# Altium integrated library NSC DAC.IntLib: 44 symbols (part 1 of 2)
Pins are listed as number, name and electrical type; pins without a type are passive.

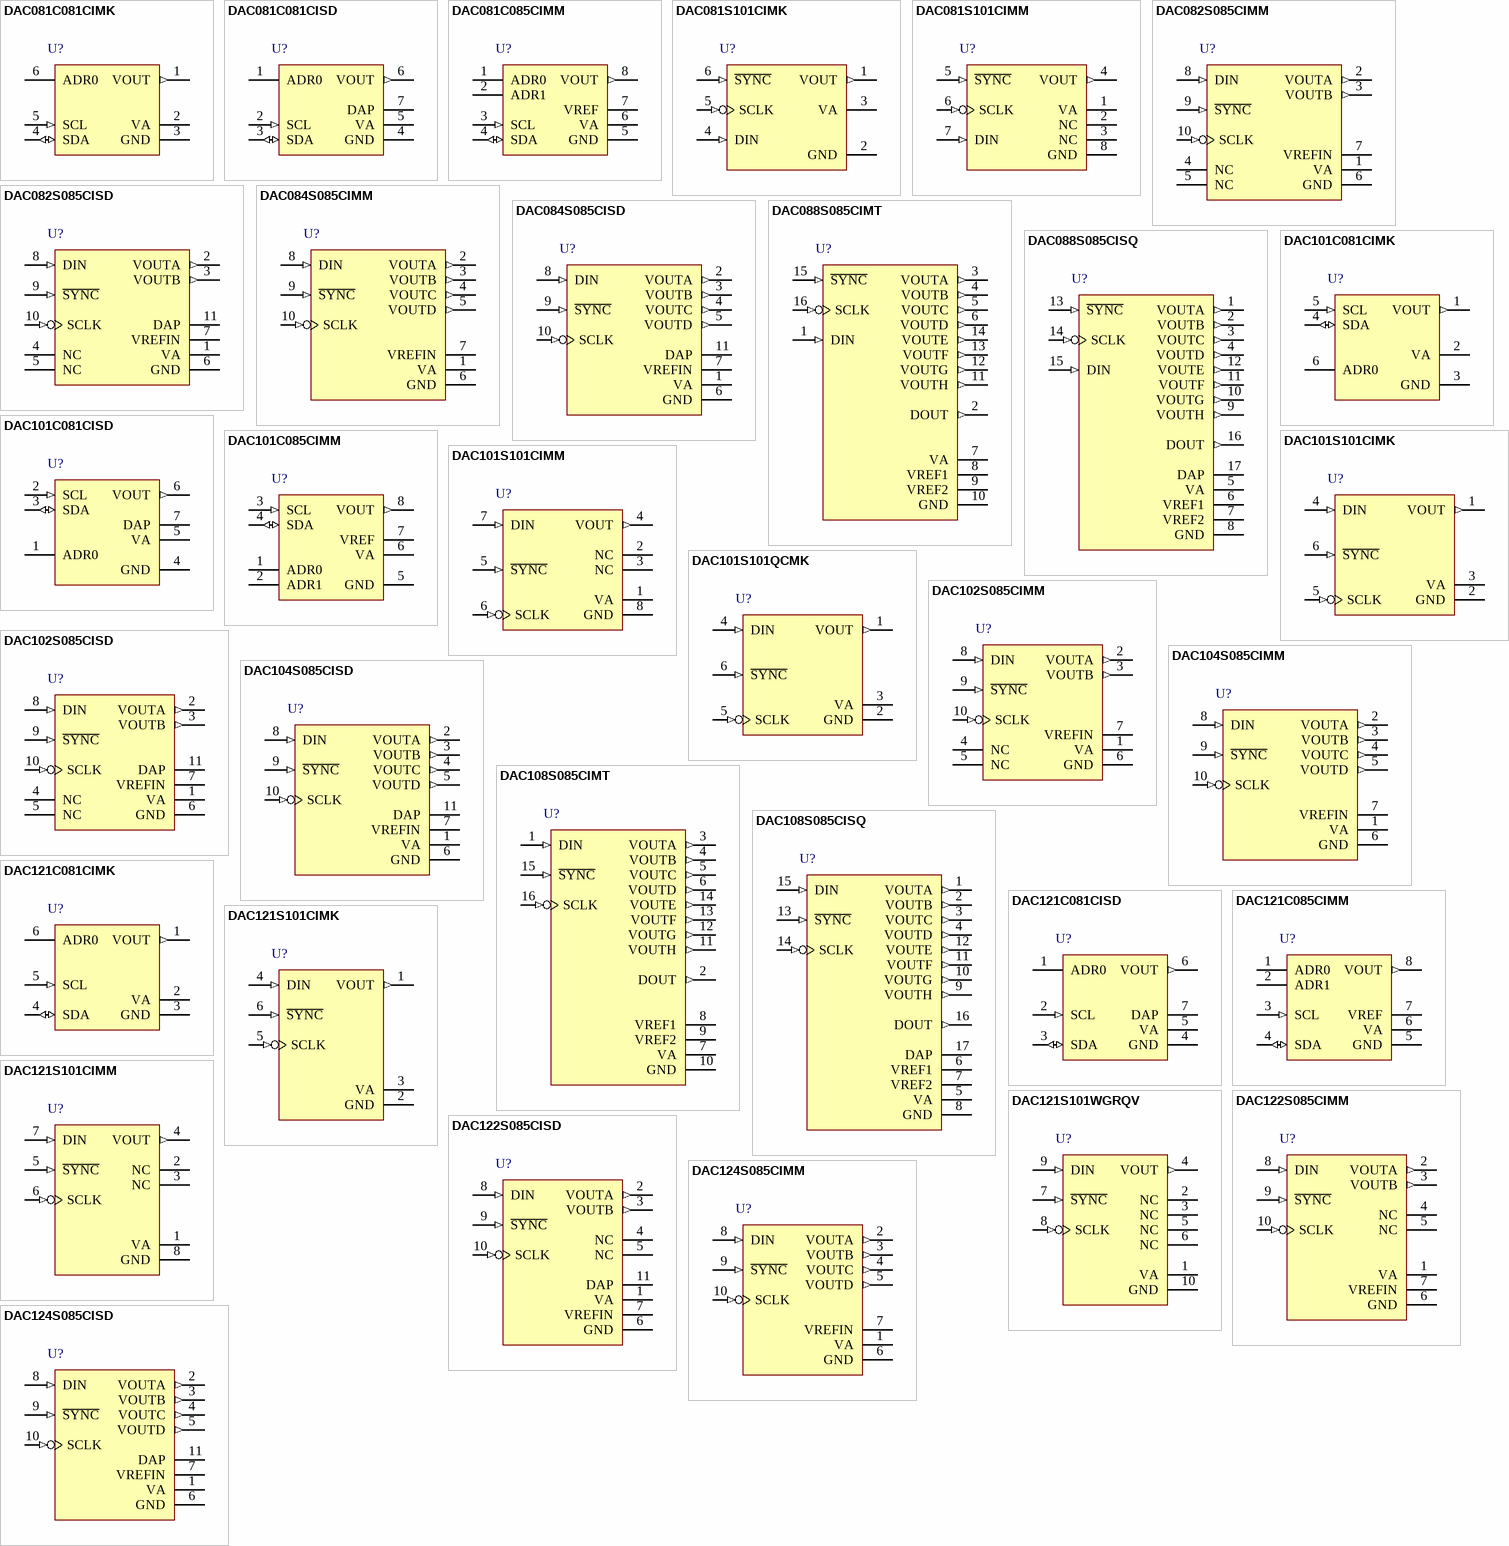
[diagram p0: symbols DAC081C081CIMK to DAC124S085CISD]

## DAC081C081CIMK
designator U?
8-Bit Micro Power Digital-to-Analog Converter with an I2C-Compatible Interface; PartNumber: DAC081C081CIMK; Manufacturer: National Semiconductor; CompType: D/A Converter; PackageTopMarking: X86C*XTT; Published: 4-Dec-2008; DatasheetVersion: Apr-2008; PackageVersion: revD, Jul-2005; PackageReference: MK06A; Publisher: Altium Limited; PackageDescription: Molded TSOT, 2.97 x 1.65 x 0.87mm Body, 6 Lead, 0.95mm Pitch; RoHS: Y; PinCount: 6; DigiKeyPartNumber: DAC081C081CIMK-ND; Code_JEDEC: MO-193-AA; Code_IPC: SOT26A-6; ComponentLink1Description: DAC081C081 Datasheet; ComponentLink1URL: http://www.national.com/ds/DA/DAC081C081.pdf; ComponentLink2Description: DAC081C081 Web Page; ComponentLink2URL: http://www.national.com/pf/DA/DAC081C081.html; ComponentLink3Description: MK06A Package Page; ComponentLink3URL: http://www.national.com/packaging/folders/mk06a.html
footprint MK06A_N (SOT23, 6-Leads, Body 3.0x1.7mm, Pitch 0.95mm, Lead Span 2.9mm, IPC Medium Density)
footprint MK06A_L (SOT23, 6-Leads, Body 3.0x1.7mm, Pitch 0.95mm, Lead Span 2.9mm, IPC High Density)
footprint MK06A_M (SOT23, 6-Leads, Body 3.0x1.7mm, Pitch 0.95mm, Lead Span 2.9mm, IPC Low Density)
pins: 1 VOUT (out), 2 VA (power), 3 GND (power), 4 SDA (io), 5 SCL (in), 6 ADR0 (hiz)

## DAC081C081CISD
designator U?
8-Bit Micro Power Digital-to-Analog Converter with an I2C-Compatible Interface; PartNumber: DAC081C081CISD; Manufacturer: National Semiconductor; CompType: D/A Converter; PackageTopMarking: XTT*X89; Published: 4-Dec-2008; DatasheetVersion: Apr-2008; PackageVersion: revA, Nov-2003; PackageReference: SDB06A; Publisher: Altium Limited; PackageDescription: LLP, Plastic, Dual, 2.2 x 2.5 x 0.8mm Body, 6 Lead, 0.65mm Pitch, No Pullback; RoHS: Y; PinCount: 7; DigiKeyPartNumber: DAC081C081CISD-ND; ComponentLink1Description: DAC081C081 Datasheet; ComponentLink1URL: http://www.national.com/ds/DA/DAC081C081.pdf; ComponentLink2Description: DAC081C081 Web Page; ComponentLink2URL: http://www.national.com/pf/DA/DAC081C081.html; ComponentLink3Description: SDB06A Package Page; ComponentLink3URL: http://www.national.com/packaging/folders/sdb06a.html
footprint SDB06A (SON, 6-Leads, Body 2.2x2.5mm, Pitch 0.65mm, NSC Recommended (SC-70 Land))
pins: 1 ADR0 (hiz), 2 SCL (in), 3 SDA (io), 4 GND (power), 5 VA (power), 6 VOUT (out), 7 DAP (power)

## DAC081C085CIMM
designator U?
8-Bit Micro Power Digital-to-Analog Converter with an I2C-Compatible Interface and External Reference; PartNumber: DAC081C085CIMM; Manufacturer: National Semiconductor; CompType: D/A Converter; PackageTopMarking: ZXTT*X92C; Published: 4-Dec-2008; DatasheetVersion: Apr-2008; PackageVersion: revF, Apr-2008; PackageReference: MUA08A; Publisher: Altium Limited; PackageDescription: MINI SOIC, .118 x .118 x .034in, 8 Lead, .0256in Pitch; RoHS: Y; PinCount: 8; DigiKeyPartNumber: DAC081C085CIMM-ND; Code_JEDEC: MO-187-AA; ComponentLink1Description: DAC081C085 Datasheet; ComponentLink1URL: http://www.national.com/ds/DA/DAC081C085.pdf; ComponentLink2Description: DAC081C085 Web Page; ComponentLink2URL: http://www.national.com/pf/DA/DAC081C085.html; ComponentLink3Description: MUA08A Package Page; ComponentLink3URL: http://www.national.com/packaging/folders/mua08a.html
footprint MUA08A_N (TSOP, 8-Leads, Body 3x3mm, Pitch 0.65mm, IPC Medium Density)
footprint MUA08A_L (TSOP, 8-Leads, Body 3x3mm, Pitch 0.65mm, IPC High Density)
footprint MUA08A_M (TSOP, 8-Leads, Body 3x3mm, Pitch 0.65mm, IPC Low Density)
pins: 1 ADR0 (hiz), 2 ADR1 (hiz), 3 SCL (in), 4 SDA (io), 5 GND (power), 6 VA (power), 7 VREF (power), 8 VOUT (out)

## DAC081S101CIMK
designator U?
8-Bit Micro Power Digital-to-Analog Converter with Rail-to-Rail Output; PartNumber: DAC081S101CIMK; Manufacturer: National Semiconductor; CompType: D/A Converter; PackageTopMarking: X65C*XTT; Published: 4-Dec-2008; DatasheetVersion: Jun-2005; PackageVersion: revD, Jul-2005; PackageReference: MK06A; Publisher: Altium Limited; PackageDescription: Molded TSOT, 2.97 x 1.65 x 0.87mm Body, 6 Lead, 0.95mm Pitch; RoHS: O; PinCount: 6; DigiKeyPartNumber: DAC081S101CIMKCT-ND; Code_JEDEC: MO-193-AA; Code_IPC: SOT26A-6; ComponentLink1Description: DAC081S101 Datasheet; ComponentLink1URL: http://www.national.com/ds/DA/DAC081S101.pdf; ComponentLink2Description: DAC081S101 Web Page; ComponentLink2URL: http://www.national.com/pf/DA/DAC081S101.html; ComponentLink3Description: MK06A Package Page; ComponentLink3URL: http://www.national.com/packaging/folders/mk06a.html
footprint MK06A_N (SOT23, 6-Leads, Body 3.0x1.7mm, Pitch 0.95mm, Lead Span 2.9mm, IPC Medium Density)
footprint MK06A_L (SOT23, 6-Leads, Body 3.0x1.7mm, Pitch 0.95mm, Lead Span 2.9mm, IPC High Density)
footprint MK06A_M (SOT23, 6-Leads, Body 3.0x1.7mm, Pitch 0.95mm, Lead Span 2.9mm, IPC Low Density)
pins: 1 VOUT (out), 2 GND (power), 3 VA (power), 4 DIN (in), 5 SCLK (in), 6 ~{SYNC} (in)

## DAC081S101CIMM
designator U?
8-Bit Micro Power Digital-to-Analog Converter with Rail-to-Rail Output; PartNumber: DAC081S101CIMM; Manufacturer: National Semiconductor; CompType: D/A Converter; PackageTopMarking: ZXTT*X64C; Published: 4-Dec-2008; DatasheetVersion: Jun-2005; PackageVersion: revF, Apr-2008; PackageReference: MUA08A; Publisher: Altium Limited; PackageDescription: MINI SOIC, .118 x .118 x .034in, 8 Lead, .0256in Pitch; RoHS: Y; PinCount: 8; DigiKeyPartNumber: DAC081S101CIMMCT-ND; Code_JEDEC: MO-187-AA; ComponentLink1Description: DAC081S101 Datasheet; ComponentLink1URL: http://www.national.com/ds/DA/DAC081S101.pdf; ComponentLink2Description: DAC081S101 Web Page; ComponentLink2URL: http://www.national.com/pf/DA/DAC081S101.html; ComponentLink3Description: MUA08A Package Page; ComponentLink3URL: http://www.national.com/packaging/folders/mua08a.html
footprint MUA08A_N (TSOP, 8-Leads, Body 3x3mm, Pitch 0.65mm, IPC Medium Density)
footprint MUA08A_L (TSOP, 8-Leads, Body 3x3mm, Pitch 0.65mm, IPC High Density)
footprint MUA08A_M (TSOP, 8-Leads, Body 3x3mm, Pitch 0.65mm, IPC Low Density)
pins: 1 VA (power), 2 NC, 3 NC, 4 VOUT (out), 5 ~{SYNC} (in), 6 SCLK (in), 7 DIN (in), 8 GND (power)

## DAC082S085CIMM
designator U?
8-Bit Micro Power DUAL Digital-to-Analog Converter with Rail-to-Rail Output; PartNumber: DAC082S085CIMM; Manufacturer: National Semiconductor; CompType: D/A Converter; PackageTopMarking: ZXTT*X76C; Published: 4-Dec-2008; DatasheetVersion: Jan-2007; PackageVersion: revB, Jul-2003; PackageReference: MUB10A; Publisher: Altium Limited; PackageDescription: Mini-SO, Molded, .118 x .118 x .034in Body, 10 Lead, .0197in Pitch; RoHS: Y; PinCount: 10; DigiKeyPartNumber: DAC082S085CIMMCT-ND; Code_JEDEC: MO-187-BA; ComponentLink1Description: DAC082S085 Datasheet; ComponentLink1URL: http://www.national.com/ds/DA/DAC082S085.pdf; ComponentLink2Description: DAC082S085 Web Page; ComponentLink2URL: http://www.national.com/pf/DA/DAC082S085.html; ComponentLink3Description: MUB10A Package Page; ComponentLink3URL: http://www.national.com/packaging/folders/mub10a.html
footprint MUB10A_N (TSSOP, 10-Leads, Body 3x3mm, Pitch 0.5mm, IPC Medium Density)
footprint MUB10A_L (TSSOP, 10-Leads, Body 3x3mm, Pitch 0.5mm, IPC High Density)
footprint MUB10A_M (TSSOP, 10-Leads, Body 3x3mm, Pitch 0.5mm, IPC Low Density)
pins: 1 VA (power), 2 VOUTA (out), 3 VOUTB (out), 4 NC, 5 NC, 6 GND (power), 7 VREFIN (power), 8 DIN (in), 9 ~{SYNC} (in), 10 SCLK (in)

## DAC082S085CISD
designator U?
8-Bit Micro Power DUAL Digital-to-Analog Converter with Rail-to-Rail Output; PartNumber: DAC082S085CISD; Manufacturer: National Semiconductor; CompType: D/A Converter; PackageTopMarking: ZXYTT*X77C; Published: 4-Dec-2008; DatasheetVersion: Jan-2007; PackageVersion: revA, Oct-2003; PackageReference: SDA10A; Publisher: Altium Limited; PackageDescription: LLP, Plastic, Dual, 3 x 3 x 0.8mm Body, 10 Lead, 0.5mm Pitch, No Pullback; RoHS: Y; PinCount: 11; DigiKeyPartNumber: DAC082S085CISDCT-ND; ComponentLink1Description: DAC082S085 Datasheet; ComponentLink1URL: http://www.national.com/ds/DA/DAC082S085.pdf; ComponentLink2Description: DAC082S085 Web Page; ComponentLink2URL: http://www.national.com/pf/DA/DAC082S085.html; ComponentLink3Description: SDA10A Package Page; ComponentLink3URL: http://www.national.com/packaging/folders/sda10a.html
footprint SDA10A (SON, 10-Leads, Body 3x3 mm, Pitch 0.5mm, NSC Recommended)
pins: 1 VA (power), 2 VOUTA (out), 3 VOUTB (out), 4 NC, 5 NC, 6 GND (power), 7 VREFIN (power), 8 DIN (in), 9 ~{SYNC} (in), 10 SCLK (in), 11 DAP (power)

## DAC084S085CIMM
designator U?
8-Bit Micro Power QUAD Digital-to-Analog Converter with Rail-to-Rail Output; PartNumber: DAC084S085CIMM; Manufacturer: National Semiconductor; CompType: D/A Converter; PackageTopMarking: ZXTT*X70C; Published: 4-Dec-2008; DatasheetVersion: Jan-2007; PackageVersion: revB, Jul-2003; PackageReference: MUB10A; Publisher: Altium Limited; PackageDescription: Mini-SO, Molded, .118 x .118 x .034in Body, 10 Lead, .0197in Pitch; RoHS: O; PinCount: 10; DigiKeyPartNumber: DAC084S085CIMMCT-ND; Code_JEDEC: MO-187-BA; ComponentLink1Description: DAC084S085 Datasheet; ComponentLink1URL: http://www.national.com/ds/DA/DAC084S085.pdf; ComponentLink2Description: DAC084S085 Web Page; ComponentLink2URL: http://www.national.com/pf/DA/DAC084S085.html; ComponentLink3Description: MUB10A Package Page; ComponentLink3URL: http://www.national.com/packaging/folders/mub10a.html
footprint MUB10A_N (TSSOP, 10-Leads, Body 3x3mm, Pitch 0.5mm, IPC Medium Density)
footprint MUB10A_L (TSSOP, 10-Leads, Body 3x3mm, Pitch 0.5mm, IPC High Density)
footprint MUB10A_M (TSSOP, 10-Leads, Body 3x3mm, Pitch 0.5mm, IPC Low Density)
pins: 1 VA (power), 2 VOUTA (out), 3 VOUTB (out), 4 VOUTC (out), 5 VOUTD (out), 6 GND (power), 7 VREFIN (power), 8 DIN (in), 9 ~{SYNC} (in), 10 SCLK (in)

## DAC084S085CISD
designator U?
8-Bit Micro Power QUAD Digital-to-Analog Converter with Rail-to-Rail Output; PartNumber: DAC084S085CISD; Manufacturer: National Semiconductor; CompType: D/A Converter; PackageTopMarking: ZXYTT*X71C; Published: 4-Dec-2008; DatasheetVersion: Jan-2007; PackageVersion: revA, Oct-2003; PackageReference: SDA10A; Publisher: Altium Limited; PackageDescription: LLP, Plastic, Dual, 3 x 3 x 0.8mm Body, 10 Lead, 0.5mm Pitch, No Pullback; RoHS: Y; PinCount: 11; DigiKeyPartNumber: DAC084S085CISDCT-ND; ComponentLink1Description: DAC084S085 Datasheet; ComponentLink1URL: http://www.national.com/ds/DA/DAC084S085.pdf; ComponentLink2Description: DAC084S085 Web Page; ComponentLink2URL: http://www.national.com/pf/DA/DAC084S085.html; ComponentLink3Description: SDA10A Package Page; ComponentLink3URL: http://www.national.com/packaging/folders/sda10a.html
footprint SDA10A (SON, 10-Leads, Body 3x3 mm, Pitch 0.5mm, NSC Recommended)
pins: 1 VA (power), 2 VOUTA (out), 3 VOUTB (out), 4 VOUTC (out), 5 VOUTD (out), 6 GND (power), 7 VREFIN (power), 8 DIN (in), 9 ~{SYNC} (in), 10 SCLK (in), 11 DAP (power)

## DAC088S085CIMT
designator U?
8-Bit Micro Power OCTAL Digital-to-Analog Converter with Rail-to-Rail Outputs; PartNumber: DAC088S085CIMT; Manufacturer: National Semiconductor; CompType: D/A Converter; PackageTopMarking: ZXTT*X82C; Published: 4-Dec-2008; DatasheetVersion: Sep-2007; PackageVersion: revD, Jun-2003; PackageReference: MTC16; Publisher: Altium Limited; PackageDescription: Molded TSSOP, Jedec, 5 x 4.4 x 0.9mm Body, 16 Lead, 0.65mm Pitch; RoHS: Y; PinCount: 16; DigiKeyPartNumber: DAC088S085CIMT-ND; Code_JEDEC: MO-153-AB; ComponentLink1Description: DAC088S085 Datasheet; ComponentLink1URL: http://www.national.com/ds/DA/DAC088S085.pdf; ComponentLink2Description: DAC088S085 Web Page; ComponentLink2URL: http://www.national.com/pf/DA/DAC088S085.html; ComponentLink3Description: MTC16 Package Page; ComponentLink3URL: http://www.national.com/packaging/folders/mtc16.html
footprint MTC16_N (TSOP, 16-Leads, Body 5x4.4mm, Pitch 0.65mm, IPC Medium Density)
footprint MTC16_L (TSOP, 16-Leads, Body 5x4.4mm, Pitch 0.65mm, IPC High Density)
footprint MTC16_M (TSOP, 16-Leads, Body 5x4.4mm, Pitch 0.65mm, IPC Low Density)
pins: 1 DIN (in), 2 DOUT (out), 3 VOUTA (out), 4 VOUTB (out), 5 VOUTC (out), 6 VOUTD (out), 7 VA (power), 8 VREF1 (power), 9 VREF2 (power), 10 GND (power), 11 VOUTH (out), 12 VOUTG (out), 13 VOUTF (out), 14 VOUTE (out), 15 ~{SYNC} (in), 16 SCLK (in)

## DAC088S085CISQ
designator U?
8-Bit Micro Power OCTAL Digital-to-Analog Converter with Rail-to-Rail Outputs; PartNumber: DAC088S085CISQ; Manufacturer: National Semiconductor; CompType: D/A Converter; PackageTopMarking: NS*UZXYTT*088S085; Published: 4-Dec-2008; DatasheetVersion: Sep-2007; PackageVersion: revA, Oct-2003; PackageReference: SQA16A; Publisher: Altium Limited; PackageDescription: LLP, Plastic, Quad, 4 x 4 x 0.8mm Body, 16 Lead, 0.5mm Pitch, No Pullback; RoHS: Y; PinCount: 17; DigiKeyPartNumber: DAC088S085CISQ-ND; ComponentLink1Description: DAC088S085 Datasheet; ComponentLink1URL: http://www.national.com/ds/DA/DAC088S085.pdf; ComponentLink2Description: DAC088S085 Web Page; ComponentLink2URL: http://www.national.com/pf/DA/DAC088S085.html; ComponentLink3Description: SQA16A Package Page; ComponentLink3URL: http://www.national.com/packaging/folders/sqa16a.html
footprint SQA16A (QFN, 16-Leads, Body 4x4mm, Pitch 0.5mm, NSC Recommended)
pins: 1 VOUTA (out), 2 VOUTB (out), 3 VOUTC (out), 4 VOUTD (out), 5 VA (power), 6 VREF1 (power), 7 VREF2 (power), 8 GND (power), 9 VOUTH (out), 10 VOUTG (out), 11 VOUTF (out), 12 VOUTE (out), 13 ~{SYNC} (in), 14 SCLK (in), 15 DIN (in), 16 DOUT (out), 17 DAP (power)

## DAC101C081CIMK
designator U?
10-Bit Micro Power Digital-to-Analog Converter with an I2C-Compatible Interface; PartNumber: DAC101C081CIMK; Manufacturer: National Semiconductor; CompType: D/A Converter; PackageTopMarking: X85C*XTT; Published: 4-Dec-2008; DatasheetVersion: Mar-2008; PackageVersion: revD, Jul-2005; PackageReference: MK06A; Publisher: Altium Limited; PackageDescription: Molded TSOT, 2.97 x 1.65 x 0.87mm Body, 6 Lead, 0.95mm Pitch; RoHS: Y; PinCount: 6; DigiKeyPartNumber: DAC101C081CIMK-ND; Code_JEDEC: MO-193-AA; Code_IPC: SOT26A-6; ComponentLink1Description: DAC101C081 Datasheet; ComponentLink1URL: http://www.national.com/ds/DA/DAC101C081.pdf; ComponentLink2Description: DAC101C081 Web Page; ComponentLink2URL: http://www.national.com/pf/DA/DAC101C081.html; ComponentLink3Description: MK06A Package Page; ComponentLink3URL: http://www.national.com/packaging/folders/mk06a.html
footprint MK06A_N (SOT23, 6-Leads, Body 3.0x1.7mm, Pitch 0.95mm, Lead Span 2.9mm, IPC Medium Density)
footprint MK06A_L (SOT23, 6-Leads, Body 3.0x1.7mm, Pitch 0.95mm, Lead Span 2.9mm, IPC High Density)
footprint MK06A_M (SOT23, 6-Leads, Body 3.0x1.7mm, Pitch 0.95mm, Lead Span 2.9mm, IPC Low Density)
pins: 1 VOUT (out), 2 VA (power), 3 GND (power), 4 SDA (io), 5 SCL (in), 6 ADR0 (hiz)

## DAC101C081CISD
designator U?
10-Bit Micro Power Digital-to-Analog Converter with an I2C-Compatible Interface; PartNumber: DAC101C081CISD; Manufacturer: National Semiconductor; CompType: D/A Converter; PackageTopMarking: XTT*X88; Published: 4-Dec-2008; DatasheetVersion: Mar-2008; PackageVersion: revA, Nov-2003; PackageReference: SDB06A; Publisher: Altium Limited; PackageDescription: LLP, Plastic, Dual, 2.2 x 2.5 x 0.8mm Body, 6 Lead, 0.65mm Pitch, No Pullback; RoHS: O; PinCount: 7; DigiKeyPartNumber: DAC101C081CISD-ND; ComponentLink1Description: DAC101C081 Datasheet; ComponentLink1URL: http://www.national.com/ds/DA/ADC101C081.pdf; ComponentLink2Description: DAC101C081 Web Page; ComponentLink2URL: http://www.national.com/pf/DA/DAC101C081.html; ComponentLink3Description: SDB06A Package Page; ComponentLink3URL: http://www.national.com/packaging/folders/sdb06a.html
footprint SDB06A (SON, 6-Leads, Body 2.2x2.5mm, Pitch 0.65mm, NSC Recommended (SC-70 Land))
pins: 1 ADR0 (hiz), 2 SCL (in), 3 SDA (io), 4 GND (power), 5 VA (power), 6 VOUT (out), 7 DAP (power)

## DAC101C085CIMM
designator U?
10-Bit Micro Power Digital-to-Analog Converter with an I2C-Compatible Interface and External Reference; PartNumber: DAC101C085CIMM; Manufacturer: National Semiconductor; CompType: D/A Converter; PackageTopMarking: ZXTT*X91C; Published: 4-Dec-2008; DatasheetVersion: Mar-2008; PackageVersion: revF, Apr-2008; PackageReference: MUA08A; Publisher: Altium Limited; PackageDescription: MINI SOIC, .118 x .118 x .034in, 8 Lead, .0256in Pitch; RoHS: O; PinCount: 8; DigiKeyPartNumber: DAC101C085CIMM-ND; Code_JEDEC: MO-187-AA; ComponentLink1Description: DAC101C085 Datasheet; ComponentLink1URL: http://www.national.com/ds/DA/ADC101C085.pdf; ComponentLink2Description: DAC101C085 Web Page; ComponentLink2URL: http://www.national.com/pf/DA/DAC101C085.html; ComponentLink3Description: MUA08A Package Page; ComponentLink3URL: http://www.national.com/packaging/folders/mua08a.html
footprint MUA08A_N (TSOP, 8-Leads, Body 3x3mm, Pitch 0.65mm, IPC Medium Density)
footprint MUA08A_L (TSOP, 8-Leads, Body 3x3mm, Pitch 0.65mm, IPC High Density)
footprint MUA08A_M (TSOP, 8-Leads, Body 3x3mm, Pitch 0.65mm, IPC Low Density)
pins: 1 ADR0 (hiz), 2 ADR1 (hiz), 3 SCL (in), 4 SDA (io), 5 GND (power), 6 VA (power), 7 VREF (power), 8 VOUT (out)

## DAC101S101CIMK
designator U?
10-Bit Micro Power Digital-to-Analog Converter with Rail-to-Rail Output; PartNumber: DAC101S101CIMK; Manufacturer: National Semiconductor; CompType: D/A Converter; PackageTopMarking: X63C*XTT; Published: 4-Dec-2008; DatasheetVersion: Jun-2005; PackageVersion: revD, Jul-2005; PackageReference: MK06A; Publisher: Altium Limited; PackageDescription: Molded TSOT, 2.97 x 1.65 x 0.87mm Body, 6 Lead, 0.95mm Pitch; RoHS: O; PinCount: 6; DigiKeyPartNumber: DAC101S101CIMKCT-ND; Code_JEDEC: MO-193-AA; Code_IPC: SOT26A-6; ComponentLink1Description: DAC101S101 Datasheet; ComponentLink1URL: http://www.national.com/ds/DA/DAC101S101.pdf; ComponentLink2Description: DAC101S101 Web Page; ComponentLink2URL: http://www.national.com/pf/DA/DAC101S101.html; ComponentLink3Description: MK06A Package Page; ComponentLink3URL: http://www.national.com/packaging/folders/mk06a.html
footprint MK06A_N (SOT23, 6-Leads, Body 3.0x1.7mm, Pitch 0.95mm, Lead Span 2.9mm, IPC Medium Density)
footprint MK06A_L (SOT23, 6-Leads, Body 3.0x1.7mm, Pitch 0.95mm, Lead Span 2.9mm, IPC High Density)
footprint MK06A_M (SOT23, 6-Leads, Body 3.0x1.7mm, Pitch 0.95mm, Lead Span 2.9mm, IPC Low Density)
pins: 1 VOUT (out), 2 GND (power), 3 VA (power), 4 DIN (in), 5 SCLK (in), 6 ~{SYNC} (in)

## DAC101S101CIMM
designator U?
10-Bit Micro Power Digital-to-Analog Converter with Rail-to-Rail Output; PartNumber: DAC101S101CIMM; Manufacturer: National Semiconductor; CompType: D/A Converter; PackageTopMarking: ZXTT*X62C; Published: 4-Dec-2008; DatasheetVersion: Jun-2005; PackageVersion: revF, Apr-2008; PackageReference: MUA08A; Publisher: Altium Limited; PackageDescription: MINI SOIC, .118 x .118 x .034in, 8 Lead, .0256in Pitch; RoHS: Y; PinCount: 8; DigiKeyPartNumber: DAC101S101CIMMCT-ND; Code_JEDEC: MO-187-AA; ComponentLink1Description: DAC101S101 Datasheet; ComponentLink1URL: http://www.national.com/ds/DA/DAC101S101.pdf; ComponentLink2Description: DAC101S101 Web Page; ComponentLink2URL: http://www.national.com/pf/DA/DAC101S101.html; ComponentLink3Description: MUA08A Package Page; ComponentLink3URL: http://www.national.com/packaging/folders/mua08a.html
footprint MUA08A_N (TSOP, 8-Leads, Body 3x3mm, Pitch 0.65mm, IPC Medium Density)
footprint MUA08A_L (TSOP, 8-Leads, Body 3x3mm, Pitch 0.65mm, IPC High Density)
footprint MUA08A_M (TSOP, 8-Leads, Body 3x3mm, Pitch 0.65mm, IPC Low Density)
pins: 1 VA (power), 2 NC, 3 NC, 4 VOUT (out), 5 ~{SYNC} (in), 6 SCLK (in), 7 DIN (in), 8 GND (power)

## DAC101S101QCMK
designator U?
10-Bit Micro Power, RRO Digital-to-Analog Converter; PartNumber: DAC101S101QCMK; Manufacturer: National Semiconductor; CompType: D/A Converter; PackageTopMarking: X63Q*XTT; Published: 4-Dec-2008; DatasheetVersion: Oct-2008; PackageVersion: revD, Jul-2005; PackageReference: MK06A; Publisher: Altium Limited; PackageDescription: Molded TSOT, 2.97 x 1.65 x 0.87mm Body, 6 Lead, 0.95mm Pitch; RoHS: O; PinCount: 6; Code_JEDEC: MO-193-AA; Code_IPC: SOT26A-6; ComponentLink1Description: DAC101S101Q Datasheet; ComponentLink1URL: http://www.national.com/ds/DA/DAC101S101.pdf; ComponentLink2Description: DAC101S101Q Web Page; ComponentLink2URL: http://www.national.com/pf/DA/DAC101S101Q.html; ComponentLink3Description: MK06A Package Page; ComponentLink3URL: http://www.national.com/packaging/folders/mk06a.html
footprint MK06A_N (SOT23, 6-Leads, Body 3.0x1.7mm, Pitch 0.95mm, Lead Span 2.9mm, IPC Medium Density)
footprint MK06A_L (SOT23, 6-Leads, Body 3.0x1.7mm, Pitch 0.95mm, Lead Span 2.9mm, IPC High Density)
footprint MK06A_M (SOT23, 6-Leads, Body 3.0x1.7mm, Pitch 0.95mm, Lead Span 2.9mm, IPC Low Density)
pins: 1 VOUT (out), 2 GND (power), 3 VA (power), 4 DIN (in), 5 SCLK (in), 6 ~{SYNC} (in)

## DAC102S085CIMM
designator U?
10-Bit Micro Power DUAL Digital-to-Analog Converter with Rail-to-Rail Output; PartNumber: DAC102S085CIMM; Manufacturer: National Semiconductor; CompType: D/A Converter; PackageTopMarking: ZXTT*X74C; Published: 4-Dec-2008; DatasheetVersion: Jan-2007; PackageVersion: revB, Jul-2003; PackageReference: MUB10A; Publisher: Altium Limited; PackageDescription: Mini-SO, Molded, .118 x .118 x .034in Body, 10 Lead, .0197in Pitch; RoHS: Y; PinCount: 10; DigiKeyPartNumber: DAC102S085CIMMCT-ND; Code_JEDEC: MO-187-BA; ComponentLink1Description: DAC102S085 Datasheet; ComponentLink1URL: http://www.national.com/ds/DA/DAC102S085.pdf; ComponentLink2Description: DAC102S085 Web Page; ComponentLink2URL: http://www.national.com/pf/DA/DAC102S085.html; ComponentLink3Description: MUB10A Package Page; ComponentLink3URL: http://www.national.com/packaging/folders/mub10a.html
footprint MUB10A_N (TSSOP, 10-Leads, Body 3x3mm, Pitch 0.5mm, IPC Medium Density)
footprint MUB10A_L (TSSOP, 10-Leads, Body 3x3mm, Pitch 0.5mm, IPC High Density)
footprint MUB10A_M (TSSOP, 10-Leads, Body 3x3mm, Pitch 0.5mm, IPC Low Density)
pins: 1 VA (power), 2 VOUTA (out), 3 VOUTB (out), 4 NC, 5 NC, 6 GND (power), 7 VREFIN (power), 8 DIN (in), 9 ~{SYNC} (in), 10 SCLK (in)

## DAC102S085CISD
designator U?
10-Bit Micro Power DUAL Digital-to-Analog Converter with Rail-to-Rail Output; PartNumber: DAC102S085CISD; Manufacturer: National Semiconductor; CompType: D/A Converter; PackageTopMarking: ZXYTT*X75C; Published: 4-Dec-2008; DatasheetVersion: Jan-2007; PackageVersion: revA, Oct-2003; PackageReference: SDA10A; Publisher: Altium Limited; PackageDescription: LLP, Plastic, Dual, 3 x 3 x 0.8mm Body, 10 Lead, 0.5mm Pitch, No Pullback; RoHS: Y; PinCount: 11; DigiKeyPartNumber: DAC102S085CISDCT-ND; ComponentLink1Description: DAC102S085 Datasheet; ComponentLink1URL: http://www.national.com/ds/DA/DAC102S085.pdf; ComponentLink2Description: DAC102S085 Web Page; ComponentLink2URL: http://www.national.com/pf/DA/DAC102S085.html; ComponentLink3Description: SDA10A Package Page; ComponentLink3URL: http://www.national.com/packaging/folders/sda10a.html
footprint SDA10A (SON, 10-Leads, Body 3x3 mm, Pitch 0.5mm, NSC Recommended)
pins: 1 VA (power), 2 VOUTA (out), 3 VOUTB (out), 4 NC, 5 NC, 6 GND (power), 7 VREFIN (power), 8 DIN (in), 9 ~{SYNC} (in), 10 SCLK (in), 11 DAP (power)

## DAC104S085CIMM
designator U?
10-Bit Micro Power QUAD Digital-to-Analog Converter with Rail-to-Rail Output; PartNumber: DAC104S085CIMM; Manufacturer: National Semiconductor; CompType: D/A Converter; PackageTopMarking: ZXTT*X68C; Published: 4-Dec-2008; DatasheetVersion: Jan-2007; PackageVersion: revB, Jul-2003; PackageReference: MUB10A; Publisher: Altium Limited; PackageDescription: Mini-SO, Molded, .118 x .118 x .034in Body, 10 Lead, .0197in Pitch; RoHS: Y; PinCount: 10; DigiKeyPartNumber: DAC104S085CIMMCT-ND; Code_JEDEC: MO-187-BA; ComponentLink1Description: DAC104S085 Datasheet; ComponentLink1URL: http://www.national.com/ds/DA/DAC104S085.pdf; ComponentLink2Description: DAC104S085 Web Page; ComponentLink2URL: http://www.national.com/pf/DA/DAC104S085.html; ComponentLink3Description: MUB10A Package Page; ComponentLink3URL: http://www.national.com/packaging/folders/mub10a.html
footprint MUB10A_N (TSSOP, 10-Leads, Body 3x3mm, Pitch 0.5mm, IPC Medium Density)
footprint MUB10A_L (TSSOP, 10-Leads, Body 3x3mm, Pitch 0.5mm, IPC High Density)
footprint MUB10A_M (TSSOP, 10-Leads, Body 3x3mm, Pitch 0.5mm, IPC Low Density)
pins: 1 VA (power), 2 VOUTA (out), 3 VOUTB (out), 4 VOUTC (out), 5 VOUTD (out), 6 GND (power), 7 VREFIN (power), 8 DIN (in), 9 ~{SYNC} (in), 10 SCLK (in)

## DAC104S085CISD
designator U?
10-Bit Micro Power QUAD Digital-to-Analog Converter with Rail-to-Rail Output; PartNumber: DAC104S085CISD; Manufacturer: National Semiconductor; CompType: D/A Converter; PackageTopMarking: ZXYTT*X69C; Published: 4-Dec-2008; DatasheetVersion: Jan-2007; PackageVersion: revA, Oct-2003; PackageReference: SDA10A; Publisher: Altium Limited; PackageDescription: LLP, Plastic, Dual, 3 x 3 x 0.8mm Body, 10 Lead, 0.5mm Pitch, No Pullback; RoHS: Y; PinCount: 11; DigiKeyPartNumber: DAC104S085CISDCT-ND; ComponentLink1Description: DAC104S085 Datasheet; ComponentLink1URL: http://www.national.com/ds/DA/DAC104S085.pdf; ComponentLink2Description: DAC104S085 Web Page; ComponentLink2URL: http://www.national.com/pf/DA/DAC104S085.html; ComponentLink3Description: SDA10A Package Page; ComponentLink3URL: http://www.national.com/packaging/folders/sda10a.html
footprint SDA10A (SON, 10-Leads, Body 3x3 mm, Pitch 0.5mm, NSC Recommended)
pins: 1 VA (power), 2 VOUTA (out), 3 VOUTB (out), 4 VOUTC (out), 5 VOUTD (out), 6 GND (power), 7 VREFIN (power), 8 DIN (in), 9 ~{SYNC} (in), 10 SCLK (in), 11 DAP (power)

## DAC108S085CIMT
designator U?
10-Bit Micro Power OCTAL Digital-to-Analog Converter with Rail-to-Rail Outputs; PartNumber: DAC108S085CIMT; Manufacturer: National Semiconductor; CompType: D/A Converter; PackageTopMarking: ZXTT*X80C; Published: 4-Dec-2008; DatasheetVersion: Oct-2007; PackageVersion: revD, Jun-2003; PackageReference: MTC16; Publisher: Altium Limited; PackageDescription: Molded TSSOP, Jedec, 5 x 4.4 x 0.9mm Body, 16 Lead, 0.65mm Pitch; RoHS: Y; PinCount: 16; DigiKeyPartNumber: DAC108S085CIMT-ND; Code_JEDEC: MO-153-AB; ComponentLink1Description: DAC108S085 Datasheet; ComponentLink1URL: http://www.national.com/ds/DA/DAC108S085.pdf; ComponentLink2Description: DAC108S085 Web Page; ComponentLink2URL: http://www.national.com/pf/DA/DAC108S085.html; ComponentLink3Description: MTC16 Package Page; ComponentLink3URL: http://www.national.com/packaging/folders/mtc16.html
footprint MTC16_N (TSOP, 16-Leads, Body 5x4.4mm, Pitch 0.65mm, IPC Medium Density)
footprint MTC16_L (TSOP, 16-Leads, Body 5x4.4mm, Pitch 0.65mm, IPC High Density)
footprint MTC16_M (TSOP, 16-Leads, Body 5x4.4mm, Pitch 0.65mm, IPC Low Density)
pins: 1 DIN (in), 2 DOUT (out), 3 VOUTA (out), 4 VOUTB (out), 5 VOUTC (out), 6 VOUTD (out), 7 VA (power), 8 VREF1 (power), 9 VREF2 (power), 10 GND (power), 11 VOUTH (out), 12 VOUTG (out), 13 VOUTF (out), 14 VOUTE (out), 15 ~{SYNC} (in), 16 SCLK (in)

## DAC108S085CISQ
designator U?
10-Bit Micro Power OCTAL Digital-to-Analog Converter with Rail-to-Rail Outputs; PartNumber: DAC108S085CISQ; Manufacturer: National Semiconductor; CompType: D/A Converter; PackageTopMarking: NS*UZXYTT*108S085; Published: 4-Dec-2008; DatasheetVersion: Oct-2007; PackageVersion: revA, Oct-2003; PackageReference: SQA16A; Publisher: Altium Limited; PackageDescription: LLP, Plastic, Quad, 4 x 4 x 0.8mm Body, 16 Lead, 0.5mm Pitch, No Pullback; RoHS: O; PinCount: 17; DigiKeyPartNumber: DAC108S085CISQ-ND; ComponentLink1Description: DAC108S085 Datasheet; ComponentLink1URL: http://www.national.com/ds/DA/DAC108S085.pdf; ComponentLink2Description: DAC108S085 Web Page; ComponentLink2URL: http://www.national.com/pf/DA/DAC108S085.html; ComponentLink3Description: SQA16A Package Page; ComponentLink3URL: http://www.national.com/packaging/folders/sqa16a.html
footprint SQA16A (QFN, 16-Leads, Body 4x4mm, Pitch 0.5mm, NSC Recommended)
pins: 1 VOUTA (out), 2 VOUTB (out), 3 VOUTC (out), 4 VOUTD (out), 5 VA (power), 6 VREF1 (power), 7 VREF2 (power), 8 GND (power), 9 VOUTH (out), 10 VOUTG (out), 11 VOUTF (out), 12 VOUTE (out), 13 ~{SYNC} (in), 14 SCLK (in), 15 DIN (in), 16 DOUT (out), 17 DAP

## DAC121C081CIMK
designator U?
12-Bit Micro Power Digital-to-Analog Converter with an I2C-Compatible Interface; PartNumber: DAC121C081CIMK; Manufacturer: National Semiconductor; CompType: D/A Converter; PackageTopMarking: X84C*XTT; Published: 4-Dec-2008; DatasheetVersion: Mar-2008; PackageVersion: revD, Jul-2005; PackageReference: MK06A; Publisher: Altium Limited; PackageDescription: Molded TSOT, 2.97 x 1.65 x 0.87mm Body, 6 Lead, 0.95mm Pitch; RoHS: O; PinCount: 6; DigiKeyPartNumber: DAC121C081CIMK-ND; Code_JEDEC: MO-193-AA; Code_IPC: SOT26A-6; ComponentLink1Description: DAC121C081 Datasheet; ComponentLink1URL: http://www.national.com/ds/DA/DAC121C081.pdf; ComponentLink2Description: DAC121C081 Web Page; ComponentLink2URL: http://www.national.com/pf/DA/DAC121C081.html; ComponentLink3Description: MK06A Package Page; ComponentLink3URL: http://www.national.com/packaging/folders/mk06a.html
footprint MK06A_N (SOT23, 6-Leads, Body 3.0x1.7mm, Pitch 0.95mm, Lead Span 2.9mm, IPC Medium Density)
footprint MK06A_L (SOT23, 6-Leads, Body 3.0x1.7mm, Pitch 0.95mm, Lead Span 2.9mm, IPC High Density)
footprint MK06A_M (SOT23, 6-Leads, Body 3.0x1.7mm, Pitch 0.95mm, Lead Span 2.9mm, IPC Low Density)
pins: 1 VOUT (out), 2 VA (power), 3 GND (power), 4 SDA (io), 5 SCL (in), 6 ADR0 (hiz)

## DAC121C081CISD
designator U?
12-Bit Micro Power Digital-to-Analog Converter with an I2C-Compatible Interface; PartNumber: DAC121C081CISD; Manufacturer: National Semiconductor; CompType: D/A Converter; PackageTopMarking: XTT*X87; Published: 4-Dec-2008; DatasheetVersion: Mar-2008; PackageVersion: revA, Nov-2003; PackageReference: SDB06A; Publisher: Altium Limited; PackageDescription: LLP, Plastic, Dual, 2.2 x 2.5 x 0.8mm Body, 6 Lead, 0.65mm Pitch, No Pullback; RoHS: O; PinCount: 7; DigiKeyPartNumber: DAC121C081CISD-ND; ComponentLink1Description: DAC121C081 Datasheet; ComponentLink1URL: http://www.national.com/ds/DA/DAC121C081.pdf; ComponentLink2Description: DAC121C081 Web Page; ComponentLink2URL: http://www.national.com/pf/DA/DAC121C081.html; ComponentLink3Description: SDB06A Package Page; ComponentLink3URL: http://www.national.com/packaging/folders/sdb06a.html
footprint SDB06A (SON, 6-Leads, Body 2.2x2.5mm, Pitch 0.65mm, NSC Recommended (SC-70 Land))
pins: 1 ADR0 (hiz), 2 SCL (in), 3 SDA (io), 4 GND (power), 5 VA (power), 6 VOUT (out), 7 DAP (power)

## DAC121C085CIMM
designator U?
12-Bit Micro Power Digital-to-Analog Converter with an I2C-Compatible Interface and External Reference; PartNumber: DAC121C085CIMM; Manufacturer: National Semiconductor; CompType: D/A Converter; PackageTopMarking: XTT*X90C; Published: 4-Dec-2008; DatasheetVersion: Mar-2008; PackageVersion: revF, Apr-2008; PackageReference: MUA08A; Publisher: Altium Limited; PackageDescription: MINI SOIC, .118 x .118 x .034in, 8 Lead, .0256in Pitch; RoHS: O; PinCount: 8; DigiKeyPartNumber: DAC121C085CIMM-ND; Code_JEDEC: MO-187-AA; ComponentLink1Description: DAC121C085 Datasheet; ComponentLink1URL: http://www.national.com/ds/DA/DAC121C085.pdf; ComponentLink2Description: DAC121C085 Web Page; ComponentLink2URL: http://www.national.com/pf/DA/DAC121C085.html; ComponentLink3Description: MUA08A Package Page; ComponentLink3URL: http://www.national.com/packaging/folders/mua08a.html
footprint MUA08A_N (TSOP, 8-Leads, Body 3x3mm, Pitch 0.65mm, IPC Medium Density)
footprint MUA08A_L (TSOP, 8-Leads, Body 3x3mm, Pitch 0.65mm, IPC High Density)
footprint MUA08A_M (TSOP, 8-Leads, Body 3x3mm, Pitch 0.65mm, IPC Low Density)
pins: 1 ADR0 (hiz), 2 ADR1 (hiz), 3 SCL (in), 4 SDA (io), 5 GND (power), 6 VA (power), 7 VREF (power), 8 VOUT (out)

## DAC121S101CIMK
designator U?
12-Bit Micro Power Digital-to-Analog Converter with Rail-to-Rail Output; PartNumber: DAC121S101CIMK; Manufacturer: National Semiconductor; CompType: D/A Converter; PackageTopMarking: X61C*XTT; Published: 4-Dec-2008; DatasheetVersion: Jun-2005; PackageVersion: revD, Jul-2005; PackageReference: MK06A; Publisher: Altium Limited; PackageDescription: Molded TSOT, 2.97 x 1.65 x 0.87mm Body, 6 Lead, 0.95mm Pitch; RoHS: O; PinCount: 6; DigiKeyPartNumber: DAC121S101CIMKCT-ND; Code_JEDEC: MO-193-AA; Code_IPC: SOT26A-6; ComponentLink1Description: DAC121S101 Datasheet; ComponentLink1URL: http://www.national.com/ds/DA/DAC121S101.pdf; ComponentLink2Description: DAC121S101 Web Page; ComponentLink2URL: http://www.national.com/pf/DA/DAC121S101.html; ComponentLink3Description: MK06A Package Page; ComponentLink3URL: http://www.national.com/packaging/folders/mk06a.html
footprint MK06A_N (SOT23, 6-Leads, Body 3.0x1.7mm, Pitch 0.95mm, Lead Span 2.9mm, IPC Medium Density)
footprint MK06A_L (SOT23, 6-Leads, Body 3.0x1.7mm, Pitch 0.95mm, Lead Span 2.9mm, IPC High Density)
footprint MK06A_M (SOT23, 6-Leads, Body 3.0x1.7mm, Pitch 0.95mm, Lead Span 2.9mm, IPC Low Density)
pins: 1 VOUT (out), 2 GND (power), 3 VA (power), 4 DIN (in), 5 SCLK (in), 6 ~{SYNC} (in)

## DAC121S101CIMM
designator U?
12-Bit Micro Power Digital-to-Analog Converter with Rail-to-Rail Output; PartNumber: DAC121S101CIMM; Manufacturer: National Semiconductor; CompType: D/A Converter; PackageTopMarking: ZXTT*X60C; Published: 4-Dec-2008; DatasheetVersion: Jun-2005; PackageVersion: revF, Apr-2008; PackageReference: MUA08A; Publisher: Altium Limited; PackageDescription: MINI SOIC, .118 x .118 x .034in, 8 Lead, .0256in Pitch; RoHS: O; PinCount: 8; DigiKeyPartNumber: DAC121S101CIMMCT-ND; Code_JEDEC: MO-187-AA; ComponentLink1Description: DAC121S101 Datasheet; ComponentLink1URL: http://www.national.com/ds/DA/DAC121S101.pdf; ComponentLink2Description: DAC121S101 Web Page; ComponentLink2URL: http://www.national.com/pf/DA/DAC121S101.html; ComponentLink3Description: MUA08A Package Page; ComponentLink3URL: http://www.national.com/packaging/folders/mua08a.html
footprint MUA08A_N (TSOP, 8-Leads, Body 3x3mm, Pitch 0.65mm, IPC Medium Density)
footprint MUA08A_L (TSOP, 8-Leads, Body 3x3mm, Pitch 0.65mm, IPC High Density)
footprint MUA08A_M (TSOP, 8-Leads, Body 3x3mm, Pitch 0.65mm, IPC Low Density)
pins: 1 VA (power), 2 NC, 3 NC, 4 VOUT (out), 5 ~{SYNC} (in), 6 SCLK (in), 7 DIN (in), 8 GND (power)

## DAC121S101WGRQV
designator U?
12-Bit Micro Power Digital-to-Analog Converter with Rail-to-Rail Output; PartNumber: DAC121S101WGRQV; Manufacturer: National Semiconductor; CompType: D/A Converter; PackageTopMarking: NSZSSXXYYA*DAC121S101*WGRQV Q*5962R07226*01VZA; Published: 4-Dec-2008; DatasheetVersion: Aug-2008; PackageVersion: revF, Oct-2008; PackageReference: WG10A; Publisher: Altium Limited; PackageDescription: Cerpack, .270 x .241 x .070in, 10 Lead, .050in Pitch, Gull Wing; RoHS: N; PinCount: 10; ComponentLink1Description: DAC121S101 Datasheet; ComponentLink1URL: http://www.national.com/ds/DA/DAC121S101.pdf; ComponentLink2Description: DAC121S101 Web Page; ComponentLink2URL: http://www.national.com/pf/DA/DAC121S101.html; ComponentLink3Description: WG10A Package Page; ComponentLink3URL: http://www.national.com/packaging/folders/wg10a.html
footprint WG10A_N (CERPACK, 10-Leads, Body 6.9x6.3mm, Pitch 1.27mm, IPC Medium Density)
footprint WG10A_L (CERPACK, 10-Leads, Body 6.9x6.3mm, Pitch 1.27mm, IPC High Density)
footprint WG10A_M (CERPACK, 10-Leads, Body 6.9x6.3mm, Pitch 1.27mm, IPC Low Density)
pins: 1 VA (power), 2 NC, 3 NC, 4 VOUT (out), 5 NC, 6 NC, 7 ~{SYNC} (in), 8 SCLK (in), 9 DIN (in), 10 GND (power)

## DAC122S085CIMM
designator U?
12-Bit Micro Power DUAL Digital-to-Analog Converter with Rail-to-Rail Output; PartNumber: DAC122S085CIMM; Manufacturer: National Semiconductor; CompType: D/A Converter; PackageTopMarking: ZXTT*X72C; Published: 4-Dec-2008; DatasheetVersion: Jan-2007; PackageVersion: revB, Jul-2003; PackageReference: MUB10A; Publisher: Altium Limited; PackageDescription: Mini-SO, Molded, .118 x .118 x .034in Body, 10 Lead, .0197in Pitch; RoHS: Y; PinCount: 10; DigiKeyPartNumber: DAC122S085CIMMCT-ND; Code_JEDEC: MO-187-BA; ComponentLink1Description: DAC122S085 Datasheet; ComponentLink1URL: http://www.national.com/ds/DA/DAC122S085.pdf; ComponentLink2Description: DAC122S085 Web Page; ComponentLink2URL: http://www.national.com/pf/DA/DAC122S085.html; ComponentLink3Description: MUB10A Package Page; ComponentLink3URL: http://www.national.com/packaging/folders/mub10a.html
footprint MUB10A_N (TSSOP, 10-Leads, Body 3x3mm, Pitch 0.5mm, IPC Medium Density)
footprint MUB10A_L (TSSOP, 10-Leads, Body 3x3mm, Pitch 0.5mm, IPC High Density)
footprint MUB10A_M (TSSOP, 10-Leads, Body 3x3mm, Pitch 0.5mm, IPC Low Density)
pins: 1 VA (power), 2 VOUTA (out), 3 VOUTB (out), 4 NC, 5 NC, 6 GND (power), 7 VREFIN (power), 8 DIN (in), 9 ~{SYNC} (in), 10 SCLK (in)

## DAC122S085CISD
designator U?
12-Bit Micro Power DUAL Digital-to-Analog Converter with Rail-to-Rail Output; PartNumber: DAC122S085CISD; Manufacturer: National Semiconductor; CompType: D/A Converter; PackageTopMarking: ZXYTT*X73C; Published: 4-Dec-2008; DatasheetVersion: Jan-2007; PackageVersion: revA, Oct-2003; PackageReference: SDA10A; Publisher: Altium Limited; PackageDescription: LLP, Plastic, Dual, 3 x 3 x 0.8mm Body, 10 Lead, 0.5mm Pitch, No Pullback; RoHS: Y; PinCount: 11; DigiKeyPartNumber: DAC122S085CISDCT-ND; ComponentLink1Description: DAC122S085 Datasheet; ComponentLink1URL: http://www.national.com/ds/DA/DAC122S085.pdf; ComponentLink2Description: DAC122S085 Web Page; ComponentLink2URL: http://www.national.com/pf/DA/DAC122S085.html; ComponentLink3Description: SDA10A Package Page; ComponentLink3URL: http://www.national.com/packaging/folders/sda10a.html
footprint SDA10A (SON, 10-Leads, Body 3x3 mm, Pitch 0.5mm, NSC Recommended)
pins: 1 VA (power), 2 VOUTA (out), 3 VOUTB (out), 4 NC, 5 NC, 6 GND (power), 7 VREFIN (power), 8 DIN (in), 9 ~{SYNC} (in), 10 SCLK (in), 11 DAP (power)

## DAC124S085CIMM
designator U?
12-Bit Micro Power QUAD Digital-to-Analog Converter with Rail-to-Rail Output; PartNumber: DAC124S085CIMM; Manufacturer: National Semiconductor; CompType: D/A Converter; PackageTopMarking: ZXTT*X66C; Published: 4-Dec-2008; DatasheetVersion: Jan-2007; PackageVersion: revB, Jul-2003; PackageReference: MUB10A; Publisher: Altium Limited; PackageDescription: Mini-SO, Molded, .118 x .118 x .034in Body, 10 Lead, .0197in Pitch; RoHS: Y; PinCount: 10; DigiKeyPartNumber: DAC124S085CIMMCT-ND; Code_JEDEC: MO-187-BA; ComponentLink1Description: DAC124S085 Datasheet; ComponentLink1URL: http://www.national.com/ds/DA/DAC124S085.pdf; ComponentLink2Description: DAC124S085 Web Page; ComponentLink2URL: http://www.national.com/pf/DA/DAC124S085.html; ComponentLink3Description: MUB10A Package Page; ComponentLink3URL: http://www.national.com/packaging/folders/mub10a.html
footprint MUB10A_N (TSSOP, 10-Leads, Body 3x3mm, Pitch 0.5mm, IPC Medium Density)
footprint MUB10A_L (TSSOP, 10-Leads, Body 3x3mm, Pitch 0.5mm, IPC High Density)
footprint MUB10A_M (TSSOP, 10-Leads, Body 3x3mm, Pitch 0.5mm, IPC Low Density)
pins: 1 VA (power), 2 VOUTA (out), 3 VOUTB (out), 4 VOUTC (out), 5 VOUTD (out), 6 GND (power), 7 VREFIN (power), 8 DIN (in), 9 ~{SYNC} (in), 10 SCLK (in)

## DAC124S085CISD
designator U?
12-Bit Micro Power QUAD Digital-to-Analog Converter with Rail-to-Rail Output; PartNumber: DAC124S085CISD; Manufacturer: National Semiconductor; CompType: D/A Converter; PackageTopMarking: ZXYTT*X67C; Published: 4-Dec-2008; DatasheetVersion: Jan-2007; PackageVersion: revA, Oct-2003; PackageReference: SDA10A; Publisher: Altium Limited; PackageDescription: LLP, Plastic, Dual, 3 x 3 x 0.8mm Body, 10 Lead, 0.5mm Pitch, No Pullback; RoHS: Y; PinCount: 11; DigiKeyPartNumber: DAC124S085CISDCT-ND; ComponentLink1Description: DAC124S085 Datasheet; ComponentLink1URL: http://www.national.com/ds/DA/DAC124S085.pdf; ComponentLink2Description: DAC124S085 Web Page; ComponentLink2URL: http://www.national.com/pf/DA/DAC124S085.html; ComponentLink3Description: SDA10A Package Page; ComponentLink3URL: http://www.national.com/packaging/folders/sda10a.html
footprint SDA10A (SON, 10-Leads, Body 3x3 mm, Pitch 0.5mm, NSC Recommended)
pins: 1 VA (power), 2 VOUTA (out), 3 VOUTB (out), 4 VOUTC (out), 5 VOUTD (out), 6 GND (power), 7 VREFIN (power), 8 DIN (in), 9 ~{SYNC} (in), 10 SCLK (in), 11 DAP (power)

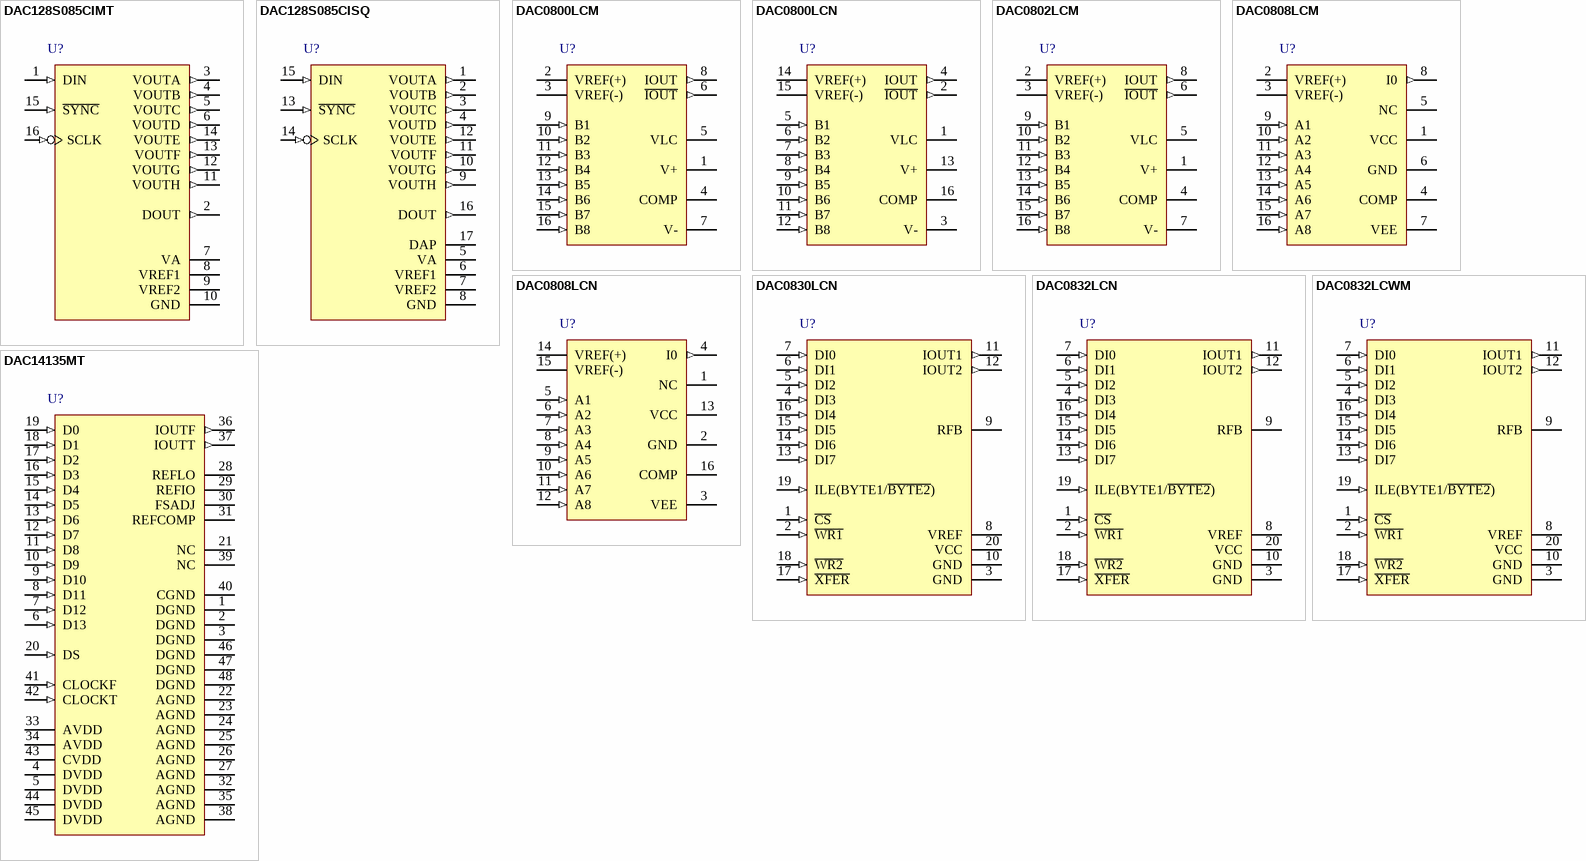
[diagram p1: symbols DAC128S085CIMT to DAC14135MT]

## DAC128S085CIMT
designator U?
12-Bit Micro Power OCTAL Digital-to-Analog Converter with Rail-to-Rail Outputs; PartNumber: DAC128S085CIMT; Manufacturer: National Semiconductor; CompType: D/A Converter; PackageTopMarking: ZXTT*X78C; Published: 4-Dec-2008; DatasheetVersion: Sep-2007; PackageVersion: revD, Jun-2003; PackageReference: MTC16; Publisher: Altium Limited; PackageDescription: Molded TSSOP, Jedec, 5 x 4.4 x 0.9mm Body, 16 Lead, 0.65mm Pitch; RoHS: Y; PinCount: 16; DigiKeyPartNumber: DAC128S085CIMT-ND; Code_JEDEC: MO-153-AB; ComponentLink1Description: DAC128S085 Datasheet; ComponentLink1URL: http://www.national.com/ds/DA/DAC128S085.pdf; ComponentLink2Description: DAC128S085 Web Page; ComponentLink2URL: http://www.national.com/pf/DA/DAC128S085.html; ComponentLink3Description: MTC16 Package Page; ComponentLink3URL: http://www.national.com/packaging/folders/mtc16.html
footprint MTC16_N (TSOP, 16-Leads, Body 5x4.4mm, Pitch 0.65mm, IPC Medium Density)
footprint MTC16_L (TSOP, 16-Leads, Body 5x4.4mm, Pitch 0.65mm, IPC High Density)
footprint MTC16_M (TSOP, 16-Leads, Body 5x4.4mm, Pitch 0.65mm, IPC Low Density)
pins: 1 DIN (in), 2 DOUT (out), 3 VOUTA (out), 4 VOUTB (out), 5 VOUTC (out), 6 VOUTD (out), 7 VA (power), 8 VREF1 (power), 9 VREF2 (power), 10 GND (power), 11 VOUTH (out), 12 VOUTG (out), 13 VOUTF (out), 14 VOUTE (out), 15 ~{SYNC} (in), 16 SCLK (in)

## DAC128S085CISQ
designator U?
12-Bit Micro Power OCTAL Digital-to-Analog Converter with Rail-to-Rail Outputs; PartNumber: DAC128S085CISQ; Manufacturer: National Semiconductor; CompType: D/A Converter; PackageTopMarking: NS*UZXYTT*128S085; Published: 4-Dec-2008; DatasheetVersion: Sep-2007; PackageVersion: revA, Oct-2003; PackageReference: SQA16A; Publisher: Altium Limited; PackageDescription: LLP, Plastic, Quad, 4 x 4 x 0.8mm Body, 16 Lead, 0.5mm Pitch, No Pullback; RoHS: O; PinCount: 17; DigiKeyPartNumber: DAC128S085CISQCT-ND; ComponentLink1Description: DAC128S085 Datasheet; ComponentLink1URL: http://www.national.com/ds/DA/DAC128S085.pdf; ComponentLink2Description: DAC128S085 Web Page; ComponentLink2URL: http://www.national.com/pf/DA/DAC128S085.html; ComponentLink3Description: SQA16A Package Page; ComponentLink3URL: http://www.national.com/packaging/folders/sqa16a.html
footprint SQA16A (QFN, 16-Leads, Body 4x4mm, Pitch 0.5mm, NSC Recommended)
pins: 1 VOUTA (out), 2 VOUTB (out), 3 VOUTC (out), 4 VOUTD (out), 5 VA (power), 6 VREF1 (power), 7 VREF2 (power), 8 GND (power), 9 VOUTH (out), 10 VOUTG (out), 11 VOUTF (out), 12 VOUTE (out), 13 ~{SYNC} (in), 14 SCLK (in), 15 DIN (in), 16 DOUT (out), 17 DAP (power)

## DAC0800LCM
designator U?
8-Bit D/A Converter; PartNumber: DAC0800LCM; Manufacturer: National Semiconductor; PackageTopMarking: NSUZXYTT*DAC0800LCM; Published: 4-Dec-2008; DatasheetVersion: Sep-2006; PackageVersion: revJ, Aug-1995; PackageReference: M16A; Publisher: Altium Limited; PackageDescription: Molded Package, SO, .150in Wide, 16 Lead; CompType: D/A Converter; RoHS: O; PinCount: 16; DigiKeyPartNumber: DAC0800LCM-ND; Code_JEDEC: MS-012-AC; Code_IPC: SOIC127P600-16; ComponentLink1Description: DAC0800 Datasheet; ComponentLink1URL: http://www.national.com/ds/DA/DAC0800.pdf; ComponentLink2Description: DAC0800 Web Page; ComponentLink2URL: http://www.national.com/pf/DA/DAC0800.html; ComponentLink3Description: M16A Package Page; ComponentLink3URL: http://www.national.com/packaging/folders/m16a.html
footprint M16A_N (SOIC, 16-Leads, Body 9.9x3.9mm, Pitch 1.27mm, IPC Medium Density)
footprint M16A_L (SOIC, 16-Leads, Body 9.9x3.9mm, Pitch 1.27mm, IPC High Density)
footprint M16A_M (SOIC, 16-Leads, Body 9.9x3.9mm, Pitch 1.27mm, IPC Low Density)
pins: 1 V+ (power), 2 VREF(+) (power), 3 VREF(-) (power), 4 COMP, 5 VLC, 6 ~{IOUT} (out), 7 V- (power), 8 IOUT (out), 9 B1 (in), 10 B2 (in), 11 B3 (in), 12 B4 (in), 13 B5 (in), 14 B6 (in), 15 B7 (in), 16 B8 (in)

## DAC0800LCN
designator U?
8-Bit D/A Converter; PartNumber: DAC0800LCN; Manufacturer: National Semiconductor; PackageTopMarking: NSUZXYYTT*DAC0800LCN*DAC-08EP; Published: 4-Dec-2008; DatasheetVersion: Sep-2006; PackageVersion: revG, May-2006; PackageReference: N16E; Publisher: Altium Limited; PackageDescription: MDIP, .750 x .250 x .130in, 16 Lead, .100in Pitch; CompType: D/A Converter; RoHS: O; PinCount: 16; DigiKeyPartNumber: DAC0800LCN-ND; Code_JEDEC: MS-001-BB; ComponentLink1Description: DAC0800 Datasheet; ComponentLink1URL: http://www.national.com/ds/DA/DAC0800.pdf; ComponentLink2Description: DAC0800 Web Page; ComponentLink2URL: http://www.national.com/pf/DA/DAC0800.html; ComponentLink3Description: N16E Package Page; ComponentLink3URL: http://www.national.com/packaging/folders/n16e.html
footprint N16E (DIP, 16-Leads, Row Spacing 7.62mm, Pitch 2.54mm, Body 19.3x6.35mm)
pins: 1 VLC, 2 ~{IOUT} (out), 3 V- (power), 4 IOUT (out), 5 B1 (in), 6 B2 (in), 7 B3 (in), 8 B4 (in), 9 B5 (in), 10 B6 (in), 11 B7 (in), 12 B8 (in), 13 V+ (power), 14 VREF(+) (power), 15 VREF(-) (power), 16 COMP

## DAC0802LCM
designator U?
8-Bit D/A Converter; PartNumber: DAC0802LCM; Manufacturer: National Semiconductor; PackageTopMarking: NSUZXYTT*DAC0802LCM; Published: 4-Dec-2008; DatasheetVersion: Sep-2006; PackageVersion: revJ, Aug-1995; PackageReference: M16A; Publisher: Altium Limited; PackageDescription: Molded Package, SO, .150in Wide, 16 Lead; CompType: D/A Converter; RoHS: Y; PinCount: 16; DigiKeyPartNumber: DAC0802LCM-ND; Code_JEDEC: MS-012-AC; Code_IPC: SOIC127P600-16; ComponentLink1Description: DAC0802 Datasheet; ComponentLink1URL: http://www.national.com/ds/DA/DAC0802.pdf; ComponentLink2Description: DAC0802 Web Page; ComponentLink2URL: http://www.national.com/pf/DA/DAC0802.html; ComponentLink3Description: M16A Package Page; ComponentLink3URL: http://www.national.com/packaging/folders/m16a.html
footprint M16A_N (SOIC, 16-Leads, Body 9.9x3.9mm, Pitch 1.27mm, IPC Medium Density)
footprint M16A_L (SOIC, 16-Leads, Body 9.9x3.9mm, Pitch 1.27mm, IPC High Density)
footprint M16A_M (SOIC, 16-Leads, Body 9.9x3.9mm, Pitch 1.27mm, IPC Low Density)
pins: 1 V+ (power), 2 VREF(+) (power), 3 VREF(-) (power), 4 COMP, 5 VLC, 6 ~{IOUT} (out), 7 V- (power), 8 IOUT (out), 9 B1 (in), 10 B2 (in), 11 B3 (in), 12 B4 (in), 13 B5 (in), 14 B6 (in), 15 B7 (in), 16 B8 (in)

## DAC0808LCM
designator U?
8-Bit D/A Converter; PartNumber: DAC0808LCM; Manufacturer: National Semiconductor; PackageTopMarking: NSUZXYTT*DAC0808LCM; Published: 4-Dec-2008; DatasheetVersion: May-1999; PackageVersion: revJ, Aug-1995; PackageReference: M16A; Publisher: Altium Limited; PackageDescription: Molded Package, SO, .150in Wide, 16 Lead; CompType: D/A Converter; RoHS: Y; PinCount: 16; DigiKeyPartNumber: DAC0808LCM-ND; Code_JEDEC: MS-012-AC; Code_IPC: SOIC127P600-16; ComponentLink1Description: DAC0808 Datasheet; ComponentLink1URL: http://www.national.com/ds/DA/DAC0808.pdf; ComponentLink2Description: DAC0808 Web Page; ComponentLink2URL: http://www.national.com/pf/DA/DAC0808.html; ComponentLink3Description: M16A Package Page; ComponentLink3URL: http://www.national.com/packaging/folders/m16a.html
footprint M16A_N (SOIC, 16-Leads, Body 9.9x3.9mm, Pitch 1.27mm, IPC Medium Density)
footprint M16A_L (SOIC, 16-Leads, Body 9.9x3.9mm, Pitch 1.27mm, IPC High Density)
footprint M16A_M (SOIC, 16-Leads, Body 9.9x3.9mm, Pitch 1.27mm, IPC Low Density)
pins: 1 VCC (power), 2 VREF(+) (power), 3 VREF(-) (power), 4 COMP, 5 NC, 6 GND (power), 7 VEE (power), 8 I0 (out), 9 A1 (in), 10 A2 (in), 11 A3 (in), 12 A4 (in), 13 A5 (in), 14 A6 (in), 15 A7 (in), 16 A8 (in)

## DAC0808LCN
designator U?
8-Bit D/A Converter; PartNumber: DAC0808LCN; Manufacturer: National Semiconductor; PackageTopMarking: NSUZXYYTT*DAC0808LCN*MC1408P8; Published: 4-Dec-2008; DatasheetVersion: May-1999; PackageVersion: revG, May-2006; PackageReference: N16E; Publisher: Altium Limited; PackageDescription: MDIP, .750 x .250 x .130in, 16 Lead, .100in Pitch; CompType: D/A Converter; RoHS: O; PinCount: 16; DigiKeyPartNumber: DAC0808LCN-ND; Code_JEDEC: MS-001-BB; ComponentLink1Description: DAC0808 Datasheet; ComponentLink1URL: http://www.national.com/ds/DA/DAC0808.pdf; ComponentLink2Description: DAC0808 Web Page; ComponentLink2URL: http://www.national.com/pf/DA/DAC0808.html; ComponentLink3Description: N16E Package Page; ComponentLink3URL: http://www.national.com/packaging/folders/n16e.html
footprint N16E (DIP, 16-Leads, Row Spacing 7.62mm, Pitch 2.54mm, Body 19.3x6.35mm)
pins: 1 NC, 2 GND (power), 3 VEE (power), 4 I0 (out), 5 A1 (in), 6 A2 (in), 7 A3 (in), 8 A4 (in), 9 A5 (in), 10 A6 (in), 11 A7 (in), 12 A8 (in), 13 VCC (power), 14 VREF(+) (power), 15 VREF(-) (power), 16 COMP